# EAGLE library part PINHD-1X10 (library untitled)
PIN HEADER
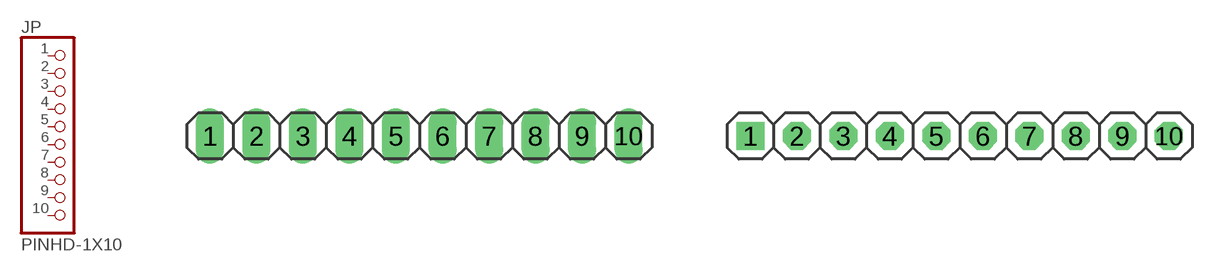
[diagram p4: symbol with the pads of 1X10; footprints 1X10, 1X10-S]

Designator prefix JP

## PINHD-1X10_2.54  [1X10]
1  1  pas
2  2  pas
3  3  pas
4  4  pas
5  5  pas
6  6  pas
7  7  pas
8  8  pas
9  9  pas
10  10  pas

## PINHD-1X10_2.54-S  [1X10-S]
Pads as for 1X10

## PINHD-1X10_2.54-90°  [1X10/90]
Pads as for 1X10

## PINHD-1X10_2.54-90°-S  [1X10/90-S]
Pads as for 1X10

## PINHD-1X10_2.00  [1X10M]
Pads as for 1X10

## PINHD-1X10_2.54-SMD  [1X10SMD]
Pads as for 1X10

## PINHD-1X10_2.54-SMD-90°  [1X10SMD/90]
Pads as for 1X10

## Footprint 1X10 (pad centres in mm)
PIN HEADER - 2.54
drill 1.016 long: 1 -11.43,0; 2 -8.89,0; 3 -6.35,0; 4 -3.81,0; 5 -1.27,0; 6 1.27,0; 7 3.81,0; 8 6.35,0; 9 8.89,0; 10 11.43,0

## Footprint 1X10-S (pad centres in mm)
PIN HEADER - 2.54
drill 1.016 square: 1 -11.43,0
drill 1.016 octagon: 2 -8.89,0; 3 -6.35,0; 4 -3.81,0; 5 -1.27,0; 6 1.27,0; 7 3.81,0; 8 6.35,0; 9 8.89,0; 10 11.43,0

## Footprint 1X10/90 (pad centres in mm)
PIN HEADER - 2.54 90°
drill 1.016 long: 1 -11.43,-3.81; 2 -8.89,-3.81; 3 -6.35,-3.81; 4 -3.81,-3.81; 5 -1.27,-3.81; 6 1.27,-3.81; 7 3.81,-3.81; 8 6.35,-3.81; 9 8.89,-3.81; 10 11.43,-3.81

## Footprint 1X10/90-S (pad centres in mm)
PIN HEADER - 2.54 90°
drill 1.016 square: 1 -11.43,-3.81
drill 1.016 octagon: 2 -8.89,-3.81; 3 -6.35,-3.81; 4 -3.81,-3.81; 5 -1.27,-3.81; 6 1.27,-3.81; 7 3.81,-3.81; 8 6.35,-3.81; 9 8.89,-3.81; 10 11.43,-3.81

## Footprint 1X10M (pad centres in mm)
PIN HEADER - 2
drill 0.914 square: 1 -9,0
drill 0.914 round: 2 -7,0; 3 -5,0; 4 -3,0; 5 -1,0; 6 1,0; 7 3,0; 8 5,0; 9 7,0; 10 9,0

## Footprint 1X10SMD (pad centres in mm)
PIN HEADER - 2.54 SMD
smd 1.016 x 3.302: 1 -1.27,1.27; 2 1.27,-1.27; 3 3.81,1.27; 4 6.35,-1.27; 5 8.89,1.27; 6 11.43,-1.27; 7 13.97,1.27; 8 16.51,-1.27; 9 19.05,1.27; 10 21.59,-1.27

## Footprint 1X10SMD/90 (pad centres in mm)
PIN HEADER - 2.54 90°
smd 1.016 x 1.778: 1 -1.27,-5.08; 2 1.27,-5.08; 3 3.81,-5.08; 4 6.35,-5.08; 5 8.89,-5.08; 6 11.43,-5.08; 7 13.97,-5.08; 8 16.51,-5.08; 9 19.05,-5.08; 10 21.59,-5.08